# Altium footprint library Booster_Board.PcbLib: 55 footprints (part 3 of 4)
Each footprint in its own frame and in the unit in brackets; x right, y up, seen from the top. Pads: shape width x height; smd on the part's side, far side on the other; paste and mask are expansions set on the pad; w line width, h text height; cw(c..) or ccw(c..) is an arc to the next point about the centre after c.
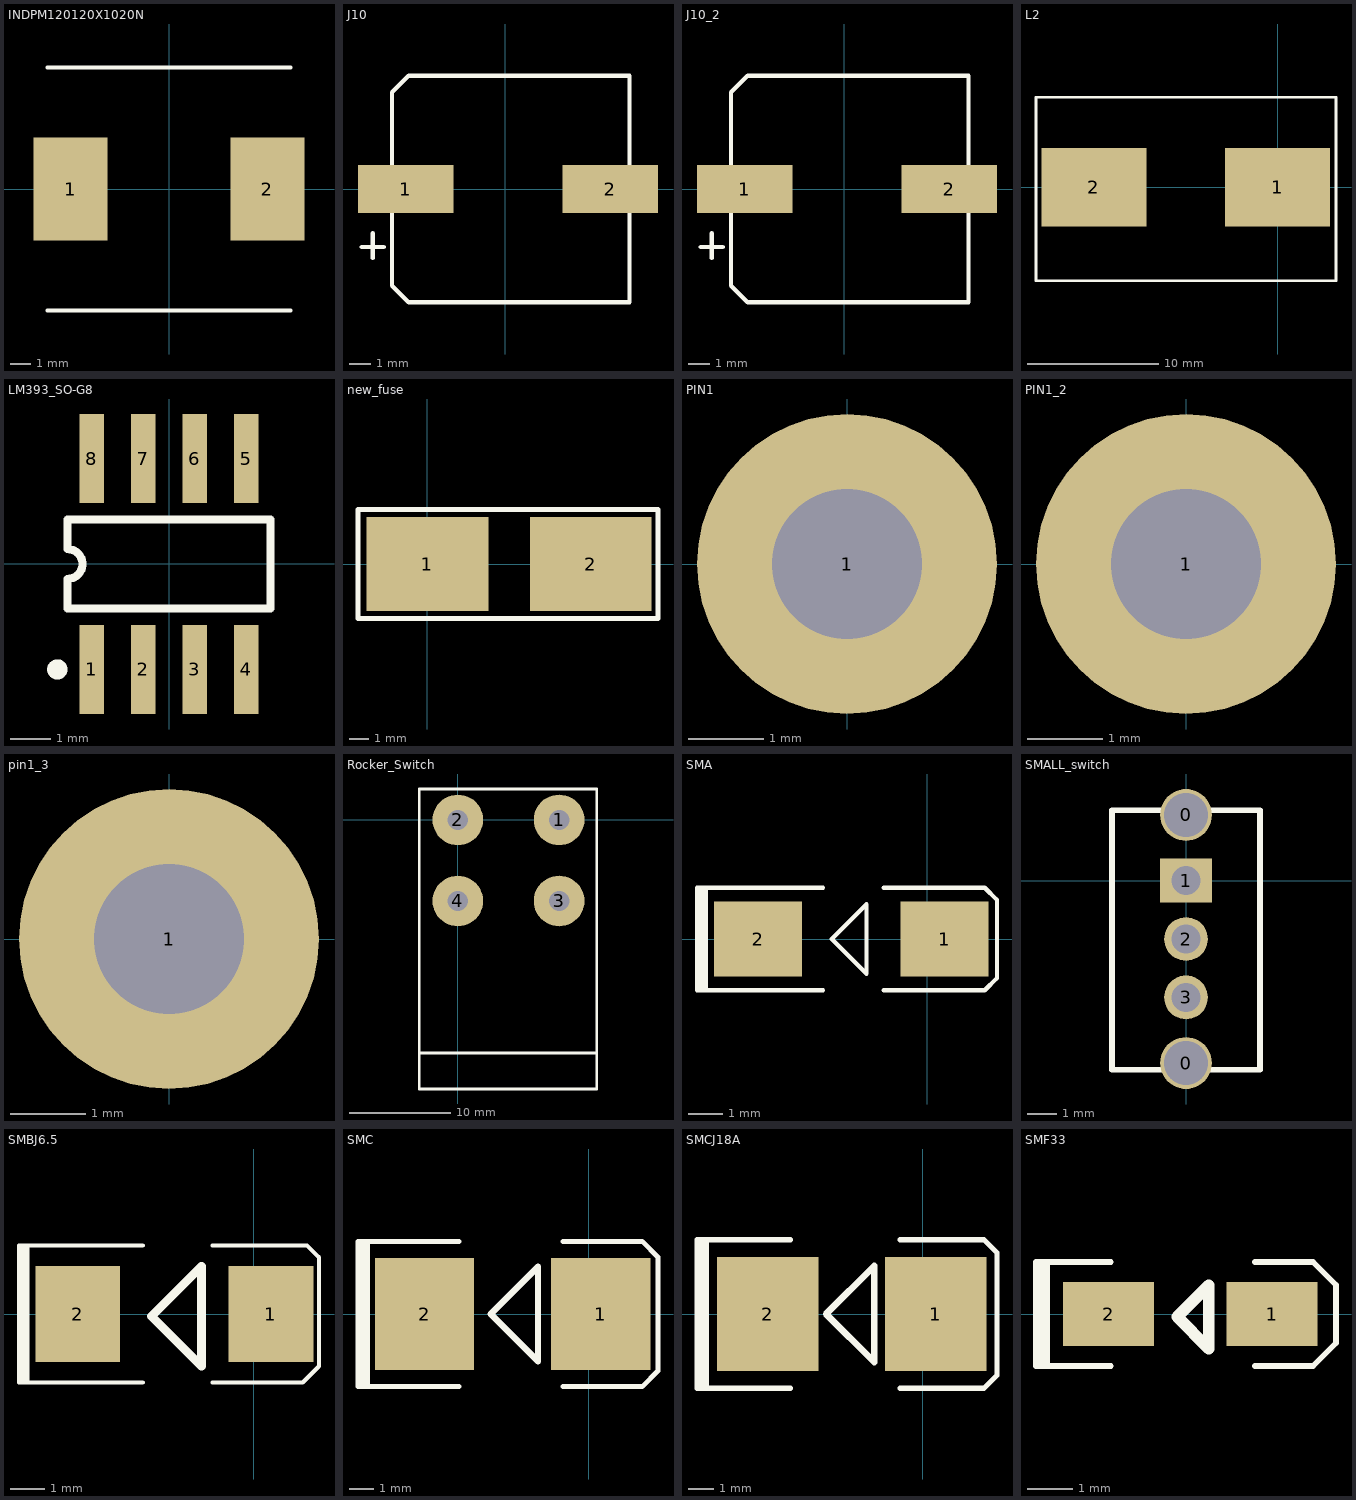
[diagram p2: the footprints below, top view; thin cyan lines are the x and y axes]

## INDPM120120X1020N [mm]
pads (2):
  rect 3.65x5.1 smd: 1(-4.85,0) 2(4.85,0)
Top Overlay:
  lines w0.2: -6,-6 6,-6 ; -6,6 6,6
3D body "MSS1210-683MED.stp": height 10.2, standoff 0, extent -6,-6 6,6

## J10 [mm]
pads (2):
  rect 4.4x2.2 smd: 1(-4.572,0) 2(4.826,0)
Top Overlay:
  lines w0.203: -6.604,-2.667 -5.588,-2.667 ; -6.096,-3.175 -6.096,-2.032 ; -5.207,0 -5.207,-4.445 -4.445,-5.207 4.826,-5.207 5.715,-5.207 5.715,-4.318 5.715,-3.81 5.715,4.318 5.715,5.207 4.826,5.207 -4.445,5.207 -5.207,4.445 ; -5.207,0 -5.207,4.445 ; -5.207,0 -5.207,4.445

## J10_2 [mm]
pads (2):
  rect 4.4x2.2 smd: 1(-4.572,0) 2(4.826,0)
Top Overlay:
  lines w0.203: -6.604,-2.667 -5.588,-2.667 ; -6.096,-3.175 -6.096,-2.032 ; -5.207,0 -5.207,-4.445 -4.445,-5.207 4.826,-5.207 5.715,-5.207 5.715,-4.318 5.715,-3.81 5.715,4.318 5.715,5.207 4.826,5.207 -4.445,5.207 -5.207,4.445 ; -5.207,0 -5.207,4.445 ; -5.207,0 -5.207,4.445

## L2 [mm]
pads (2):
  rect 8x6 smd: 1(0,0) 2(-14,0)
Top Overlay:
  lines w0.203: -18.415,-7.112 -18.415,6.858 4.445,6.858 4.445,-7.112 -18.415,-7.112

## LM393_SO-G8 [mm] "Small Outline; 8 Leads; Body Width 3.9 mm; Pitch 1.27 mm"
height 1.75
pads (8):
  rect 0.6x2.2 smd: 1(-1.905,-2.6) 2(-0.635,-2.6) 3(0.635,-2.6) 4(1.905,-2.6) 5(1.905,2.6) 6(0.635,2.6) 7(-0.635,2.6) 8(-1.905,2.6)
Top Overlay:
  circle w0.25: c-2.755,-2.6 r0.125
  lines w0.2: -2.5,-0.367 -2.5,-1.1 2.5,-1.1 2.5,1.1 -2.5,1.1 -2.5,0.367 ; -2.5,-0.367 ccw(c-2.5,0) -2.5,0.367

## new_fuse [mm]
pads (2):
  rect 6.24x4.81 smd: 1(0,0) 2(8.37,0)
Top Overlay:
  lines w0.254: -3.556,-2.794 11.811,-2.794 11.811,2.794 -3.556,2.794 -3.556,-2.794

## PIN1 [mm]
pads (1):
  round 4 hole 2: 1(0,0)

## PIN1_2 [mm]
pads (1):
  round 4 hole 2: 1(0,0)

## pin1_3 [mm]
pads (1):
  round 4 hole 2: 1(0,0)

## Rocker_Switch [mm]
pads (4):
  round 5 hole 2: 1(10,0) 2(0,0) 3(10,-8) 4(0,-8)
Top Overlay:
  lines w0.254: -3.81,-23 13.716,-23 ; -3.81,-26.552 13.716,-26.552 13.716,3.048 -3.81,3.048 -3.81,-26.552

## SMA [mm]
pads (2):
  rect 2.56x2.2 smd: 1(0.5,0) 2(-4.948,0)
Top Overlay:
  lines w0.127: -6.604,-1.499 -6.604,1.499 ; -6.477,-1.5 -6.477,1.5 ; -5.513,1.5 -5.489,1.5 ; -3.051,-1.499 -6.731,-1.499 -6.731,1.499 -3.051,1.499 ; -1.273,-1.5 0.251,-1.5 1.675,-1.5 2.032,-1.143 2.032,1.143 1.675,1.5 -0.003,1.5 ; -1.273,1.5 0.152,1.5 ; -2.794,0 -1.778,1.016 -1.778,-1.016 -2.794,0

## SMALL_switch [mm] "开关"
pads (5):
  round 1.778 hole 1.5: 0(0,-6.25) 0(0,2.25)
  rect 1.778x1.5 hole 1: 1(0,0)
  round 1.5 hole 1: 2(0,-2) 3(0,-4)
Top Overlay:
  lines w0.2: -2.54,-6.477 2.54,-6.477 2.54,2.413 -2.54,2.413 -2.54,-6.477

## SMBJ6.5 [mm]
pads (2):
  rect 2.475x2.8 smd: 1(0.5,0) 2(-5.133,0)
Top Overlay:
  lines w0.127: -6.721,-2 -6.721,2 ; -6.604,-2 -6.604,2 ; -3.236,-2 -6.848,-2 -6.848,2 -3.236,2 ; -1.204,-2 1.429,-2 1.905,-1.524 1.905,1.651 1.556,2 -1.204,2
  lines w0.254: -2.984,-0.064 -1.524,-1.524 -1.524,1.397 -2.984,-0.064

## SMC [mm]
pads (2):
  rect 4x4.5 smd: 1(0.5,0) 2(-6.596,0)
Top Overlay:
  lines w0.2: -9.271,-2.921 -9.271,2.921 ; -9.144,-2.921 -9.144,2.921 ; -9.017,-2.921 -9.017,2.921 ; -8.89,-2.921 -8.89,2.921
  lines w0.203: -9.271,-2.921 -5.207,-2.921 ; -9.271,2.921 -5.207,2.921 ; -1.016,-2.921 2.159,-2.921 2.794,-2.286 2.794,2.286 2.159,2.921 -1.016,2.921
  lines w0.254: -3.937,0 -2.032,1.905 -2.032,-1.905 -3.937,0

## SMCJ18A [mm]
pads (2):
  rect 4x4.5 smd: 1(0.508,0) 2(-6.104,0)
Top Overlay:
  lines w0.2: -8.89,-2.921 -8.89,2.921 ; -8.763,-2.921 -8.763,2.921 ; -8.636,-2.921 -8.636,2.921 ; -8.509,-2.921 -8.509,2.921
  lines w0.203: -8.89,-2.921 -5.207,-2.921 ; -8.89,2.921 -5.207,2.921 ; -0.889,-2.921 2.413,-2.921 2.921,-2.413 2.921,2.413 2.413,2.921 -0.889,2.921
  lines w0.254: -3.81,0 -1.905,1.905 -1.905,-1.905 -3.81,0

## SMF33 [mm] "TVS 二极管 3.3V"
pads (2):
  rect 2x1.4 smd: 1(5.58,0) 2(1.988,0)
Top Overlay:
  lines w0.127: 0.518,-1.143 0.518,1.143 ; 0.635,-1.143 0.635,1.143 ; 2.032,-1.143 0.391,-1.143 0.391,1.143 2.032,1.143 ; 5.207,-1.143 6.477,-1.143 6.985,-0.635 6.985,0.635 6.477,1.143 5.207,1.143
  lines w0.254: 3.492,-0.064 4.191,0.635 4.191,-0.762 3.492,-0.064